# EAGLE library part DRV8811 (library SparkFun-PowerIC)
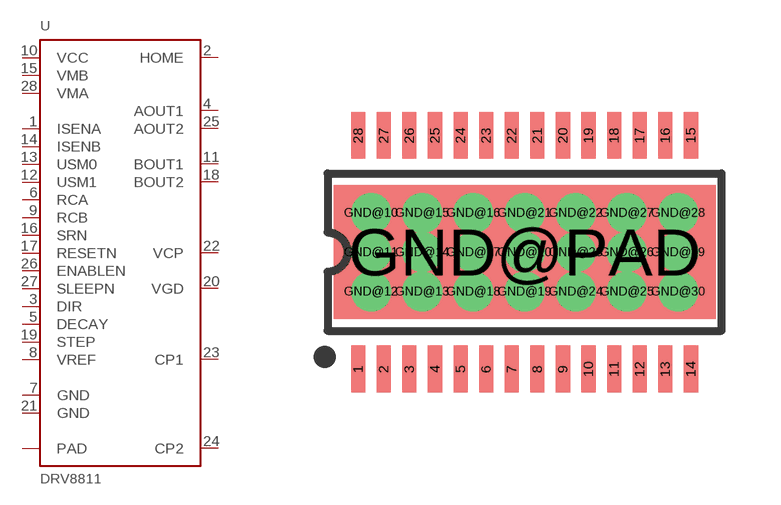
[diagram p7: symbol with the pads of HTSSOP28; footprint HTSSOP28]

Designator prefix U

## DRV8811 (PROD_ID: IC-12375)  [HTSSOP28]
1  ISENA
2  HOME
3  DIR
4  AOUT1
5  DECAY
6  RCA
7  GND
8  VREF
9  RCB
10  VCC
11  BOUT1
12  USM1
13  USM0
14  ISENB
15  VMB
16  SRN
17  RESETN
18  BOUT2
19  STEP
20  VGD
21  GND
22  VCP
23  CP1
24  CP2
25  AOUT2
26  ENABLEN
27  SLEEPN
28  VMA
GND@10  PAD
GND@11  PAD
GND@12  PAD
GND@13  PAD
GND@14  PAD
GND@15  PAD
GND@16  PAD
GND@17  PAD
GND@18  PAD
GND@19  PAD
GND@20  PAD
GND@21  PAD
GND@22  PAD
GND@23  PAD
GND@24  PAD
GND@25  PAD
GND@26  PAD
GND@27  PAD
GND@28  PAD
GND@29  PAD
GND@30  PAD
GND@PAD  PAD

## Footprint HTSSOP28 (pad centres in mm)
smd 0.36 x 1.19: 1 -4.225,-2.97; 2 -3.575,-2.97; 3 -2.925,-2.97; 4 -2.275,-2.97; 5 -1.625,-2.97; 6 -0.975,-2.97; 7 -0.325,-2.97; 8 0.325,-2.97; 9 0.975,-2.97; 10 1.625,-2.97; 11 2.275,-2.97; 12 2.925,-2.97; 13 3.575,-2.97; 14 4.225,-2.97; 15 4.225,2.97; 16 3.575,2.97; 17 2.925,2.97; 18 2.275,2.97; 19 1.625,2.97; 20 0.975,2.97; 21 0.325,2.97; 22 -0.325,2.97; 23 -0.975,2.97; 24 -1.625,2.97; 25 -2.275,2.97; 26 -2.925,2.97; 27 -3.575,2.97; 28 -4.225,2.97
drill 0.508: GND@10 -3.9,1; GND@11 -3.9,0; GND@12 -3.9,-1; GND@13 -2.6,-1; GND@14 -2.6,0; GND@15 -2.6,1; GND@16 -1.3,1; GND@17 -1.3,0; GND@18 -1.3,-1; GND@19 0,-1; GND@20 0,0; GND@21 0,1; GND@22 1.3,1; GND@23 1.3,0; GND@24 1.3,-1; GND@25 2.6,-1; GND@26 2.6,0; GND@27 2.6,1; GND@28 3.9,1; GND@29 3.9,0; GND@30 3.9,-1
smd 9.7 x 3.4: GND@PAD 0,0